# Altium schematic symbol library T8_devkit_PCB_1.SCHLIB: 83 symbols (part 2 of 2)
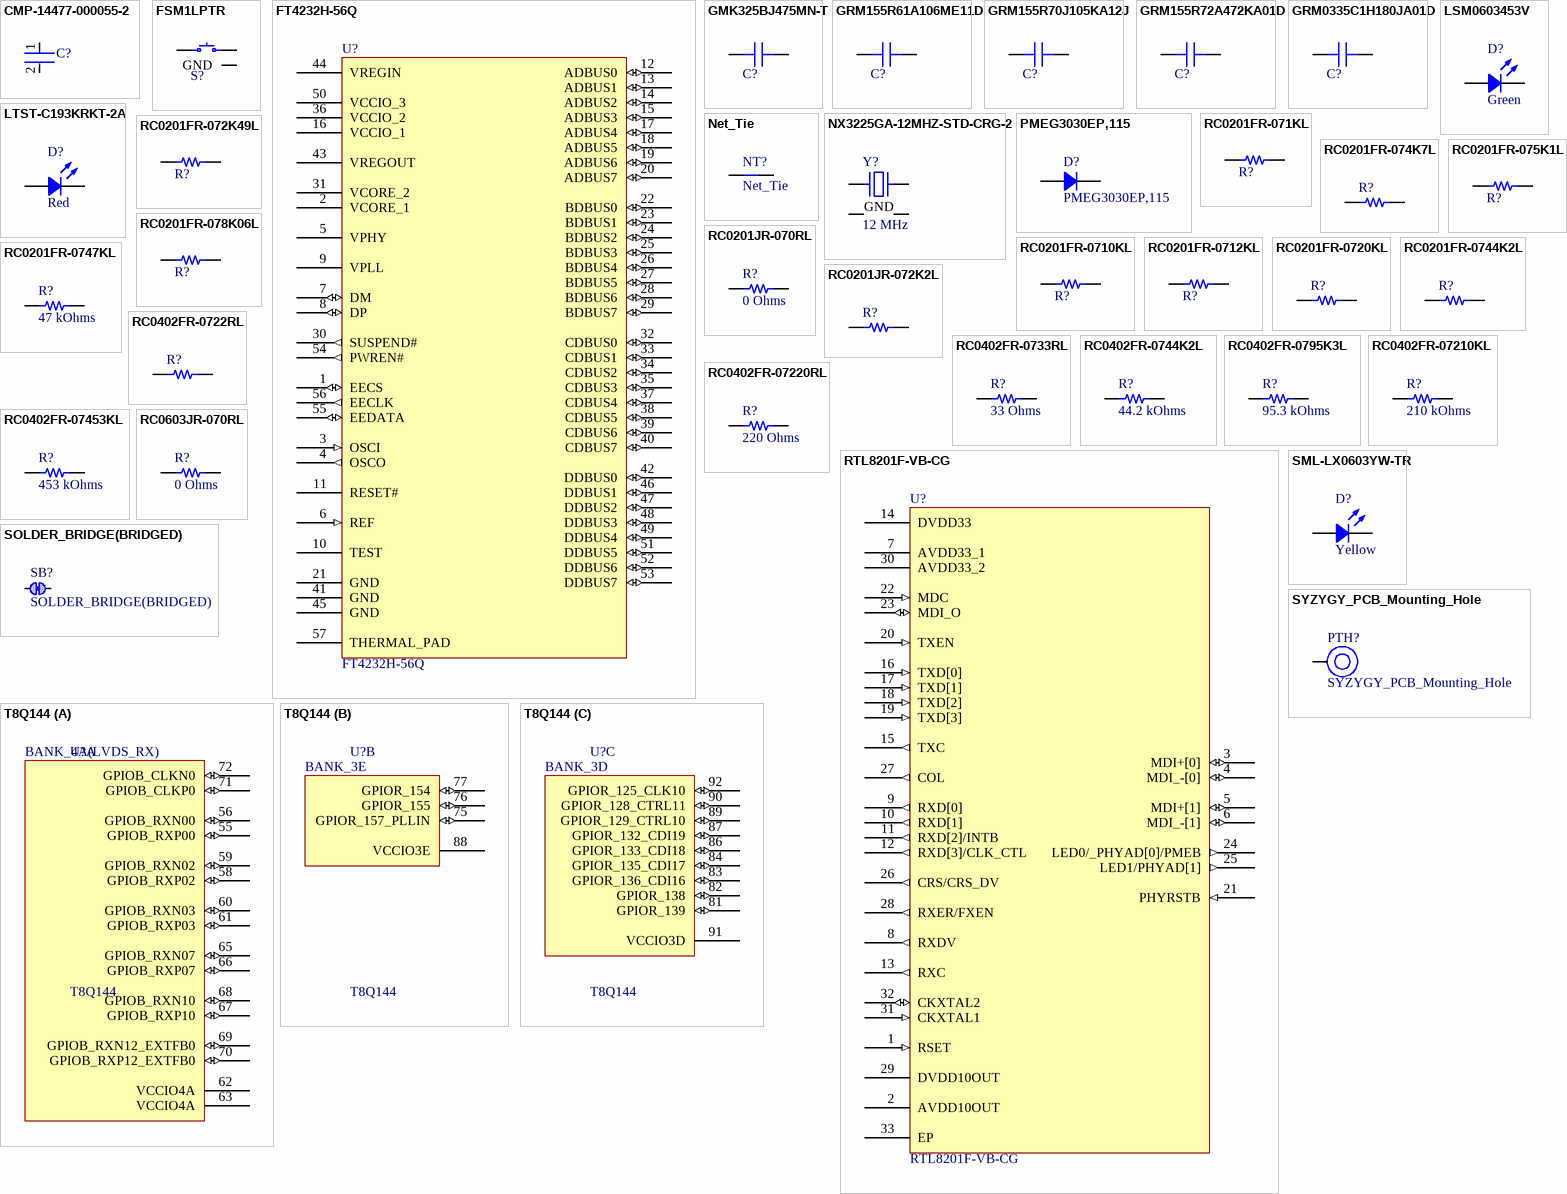
[diagram p3: symbols CMP-14477-000055-2 to T8Q144]

## RC0201FR-071KL
designator R?, comment 1 kOhms  (value not drawn)
RES 1K OHM 1% 1/20W 0201; Part Number: RC0201FR-071KL; Manufacturer: Yageo; Power (Watts): 0.05W, 1/20W; Temperature Coefficient: ±200ppm/°C; Value: 1 kOhms; ComponentLink1Description: Datasheet; ComponentLink1URL: https://www.yageo.com/upload/media/product/productsearch/datasheet/rchip/PYu-RC_Group_51_RoHS_L_10.pdf; ComponentLink2Description: DigiKey Link; ComponentLink2URL: https://www.digikey.com/en/products/detail/yageo/RC0201FR-071KL/3202389; Composition: Thick Film; Device Package: 0201 (0603 Metric); Features: Moisture Resistant; Height - Seated (Max): 0.010" (0.26mm); LastUpdated: 19/09/2022 13:09:03; Lifecycle Status: Active; Minimum Order: 1; Number of Terminations: 2; Operating Temperature: -55°C ~ 125°C; Package / Case: 0201 (0603 Metric); Packaging: CutTape; PartId: 2286; Part Status: Active; Price: 0.01; Resistance: 1 kOhms; Series: RC_L; Size / Dimension: 0.024" L x 0.012" W (0.60mm x 0.30mm); Supplier 1: DigiKey; Supplier Part Number 1: 311-1KMCT-ND; Supplier Device Package: 0201; Tolerance: ±1%
footprint RES 0201_0603
pins: 1, 2

## RC0201FR-072K49L
designator R?, comment 2.49 kOhms  (value not drawn)
RES 2.49K OHM 1% 1/20W 0201; Part Number: RC0201FR-072K49L; Manufacturer: Yageo; Power (Watts): 0.05W, 1/20W; Temperature Coefficient: ±200ppm/°C; Value: 2.49 kOhms; ComponentLink1Description: Datasheet; ComponentLink1URL: https://www.yageo.com/upload/media/product/productsearch/datasheet/rchip/PYu-RC_Group_51_RoHS_L_10.pdf; ComponentLink2Description: DigiKey Link; ComponentLink2URL: https://www.digikey.com/en/products/detail/yageo/RC0201FR-072K49L/3202399; Composition: Thick Film; Device Package: 0201 (0603 Metric); Features: Moisture Resistant; Height - Seated (Max): 0.010" (0.26mm); LastUpdated: 19/09/2022 13:09:06; Lifecycle Status: Active; Minimum Order: 1; Number of Terminations: 2; Operating Temperature: -55°C ~ 125°C; Package / Case: 0201 (0603 Metric); Packaging: CutTape; PartId: 1844; Part Status: Active; Price: 0.01; Resistance: 2.49 kOhms; Series: RC_L; Size / Dimension: 0.024" L x 0.012" W (0.60mm x 0.30mm); Supplier 1: DigiKey; Supplier Part Number 1: YAG2338CT-ND; Supplier Device Package: 0201; Tolerance: ±1%
footprint RES 0201_0603
pins: 1, 2

## RC0201FR-074K7L
designator R?, comment 4.7 kOhms  (value not drawn)
RES 4.7K OHM 1% 1/20W 0201; Part Number: RC0201FR-074K7L; Manufacturer: Yageo; Power (Watts): 0.05W, 1/20W; Temperature Coefficient: ±200ppm/°C; Value: 4.7 kOhms; ComponentLink1Description: Datasheet; ComponentLink1URL: https://www.yageo.com/upload/media/product/productsearch/datasheet/rchip/PYu-RC_Group_51_RoHS_L_10.pdf; ComponentLink2Description: DigiKey Link; ComponentLink2URL: https://www.digikey.com/en/products/detail/yageo/RC0201FR-074K7L/1948894; Composition: Thick Film; Device Package: 0201 (0603 Metric); Features: Moisture Resistant; Height - Seated (Max): 0.010" (0.26mm); LastUpdated: 19/09/2022 13:09:03; Lifecycle Status: Active; Minimum Order: 1; Number of Terminations: 2; Operating Temperature: -55°C ~ 125°C; Package / Case: 0201 (0603 Metric); Packaging: CutTape; PartId: 2288; Part Status: Active; Price: 0.01; Resistance: 4.7 kOhms; Series: RC_L; Size / Dimension: 0.024" L x 0.012" W (0.60mm x 0.30mm); Supplier 1: DigiKey; Supplier Part Number 1: 311-4.70KMCT-ND; Supplier Device Package: 0201; Tolerance: ±1%
footprint RES 0201_0603
pins: 1, 2

## RC0201FR-075K1L
designator R?, comment 5.1 kOhms  (value not drawn)
RES 5.1K OHM 1% 1/20W 0201; Part Number: RC0201FR-075K1L; Manufacturer: Yageo; Power (Watts): 0.05W, 1/20W; Temperature Coefficient: ±200ppm/°C; Value: 5.1 kOhms; ComponentLink1Description: Datasheet; ComponentLink1URL: https://www.yageo.com/upload/media/product/productsearch/datasheet/rchip/PYu-RC_Group_51_RoHS_L_10.pdf; ComponentLink2Description: DigiKey Link; ComponentLink2URL: https://www.digikey.com/en/products/detail/yageo/RC0201FR-075K1L/5280601; Composition: Thick Film; Device Package: 0201 (0603 Metric); Features: Moisture Resistant; Height - Seated (Max): 0.010" (0.26mm); LastUpdated: 19/09/2022 13:09:10; Lifecycle Status: Active; Minimum Order: 1; Number of Terminations: 2; Operating Temperature: -55°C ~ 125°C; Package / Case: 0201 (0603 Metric); Packaging: CutTape; PartId: 1398; Part Status: Active; Price: 0.01; Resistance: 5.1 kOhms; Series: RC_L; Size / Dimension: 0.024" L x 0.012" W (0.60mm x 0.30mm); Supplier 1: DigiKey; Supplier Part Number 1: YAG2741CT-ND; Supplier Device Package: 0201; Tolerance: ±1%
footprint RES 0201_0603
pins: 1, 2

## RC0201FR-078K06L
designator R?, comment 8.06 kOhms  (value not drawn)
RES 8.06K OHM 1% 1/20W 0201; Part Number: RC0201FR-078K06L; Manufacturer: Yageo; Power (Watts): 0.05W, 1/20W; Temperature Coefficient: ±200ppm/°C; Value: 8.06 kOhms; ComponentLink1Description: Datasheet; ComponentLink1URL: https://www.yageo.com/upload/media/product/productsearch/datasheet/rchip/PYu-RC_Group_51_RoHS_L_10.pdf; ComponentLink2Description: DigiKey Link; ComponentLink2URL: https://www.digikey.com/en/products/detail/yageo/RC0201FR-078K06L/5280691; Composition: Thick Film; Device Package: 0201 (0603 Metric); Features: Moisture Resistant; Height - Seated (Max): 0.010" (0.26mm); LastUpdated: 19/09/2022 13:09:10; Lifecycle Status: Active; Minimum Order: 1; Number of Terminations: 2; Operating Temperature: -55°C ~ 125°C; Package / Case: 0201 (0603 Metric); Packaging: CutTape; PartId: 1391; Part Status: Active; Price: 0.01; Resistance: 8.06 kOhms; Series: RC_L; Size / Dimension: 0.024" L x 0.012" W (0.60mm x 0.30mm); Supplier 1: DigiKey; Supplier Part Number 1: YAG2831CT-ND; Supplier Device Package: 0201; Tolerance: ±1%
footprint RES 0201_0603
pins: 1, 2

## RC0201FR-0710KL
designator R?, comment 10 kOhms  (value not drawn)
RES 10K OHM 1% 1/20W 0201; Part Number: RC0201FR-0710KL; Manufacturer: Yageo; Power (Watts): 0.05W, 1/20W; Temperature Coefficient: ±200ppm/°C; Value: 10 kOhms; ComponentLink1Description: Datasheet; ComponentLink1URL: https://www.yageo.com/upload/media/product/productsearch/datasheet/rchip/PYu-RC_Group_51_RoHS_L_10.pdf; ComponentLink2Description: DigiKey Link; ComponentLink2URL: https://www.digikey.com/en/products/detail/yageo/RC0201FR-0710KL/1948870; Composition: Thick Film; Device Package: 0201 (0603 Metric); Features: Moisture Resistant; Height - Seated (Max): 0.010" (0.26mm); LastUpdated: 19/09/2022 13:09:03; Lifecycle Status: Active; Minimum Order: 1; Number of Terminations: 2; Operating Temperature: -55°C ~ 125°C; Package / Case: 0201 (0603 Metric); Packaging: CutTape; PartId: 2281; Part Status: Active; Price: 0.01; Resistance: 10 kOhms; Series: RC_L; Size / Dimension: 0.024" L x 0.012" W (0.60mm x 0.30mm); Supplier 1: DigiKey; Supplier Part Number 1: 311-10.0KMCT-ND; Supplier Device Package: 0201; Tolerance: ±1%
footprint RES 0201_0603
pins: 1, 2

## RC0201FR-0712KL
designator R?, comment 12 kOhms  (value not drawn)
RES 12K OHM 1% 1/20W 0201; Part Number: RC0201FR-0712KL; Manufacturer: Yageo; Power (Watts): 0.05W, 1/20W; Temperature Coefficient: ±200ppm/°C; Value: 12 kOhms; ComponentLink1Description: Datasheet; ComponentLink1URL: https://www.yageo.com/upload/media/product/productsearch/datasheet/rchip/PYu-RC_Group_51_RoHS_L_10.pdf; ComponentLink2Description: DigiKey Link; ComponentLink2URL: https://www.digikey.com/en/products/detail/yageo/RC0201FR-0712KL/1948886; Composition: Thick Film; Device Package: 0201 (0603 Metric); Features: Moisture Resistant; Height - Seated (Max): 0.010" (0.26mm); LastUpdated: 19/09/2022 13:09:10; Lifecycle Status: Active; Minimum Order: 1; Number of Terminations: 2; Operating Temperature: -55°C ~ 125°C; Package / Case: 0201 (0603 Metric); Packaging: CutTape; PartId: 1388; Part Status: Active; Price: 0.01; Resistance: 12 kOhms; Series: RC_L; Size / Dimension: 0.024" L x 0.012" W (0.60mm x 0.30mm); Supplier 1: DigiKey; Supplier Part Number 1: 311-12.0KMCT-ND; Supplier Device Package: 0201; Tolerance: ±1%
footprint RES 0201_0603
pins: 1, 2

## RC0201FR-0720KL
designator R?, comment 20 kOhms  (value not drawn)
RES 20K OHM 1% 1/20W 0201; Part Number: RC0201FR-0720KL; Manufacturer: Yageo; Power (Watts): 0.05W, 1/20W; Temperature Coefficient: ±200ppm/°C; Value: 20 kOhms; ComponentLink1Description: Datasheet; ComponentLink1URL: https://www.yageo.com/upload/media/product/productsearch/datasheet/rchip/PYu-RC_Group_51_RoHS_L_10.pdf; ComponentLink2Description: DigiKey Link; ComponentLink2URL: https://www.digikey.com/en/products/detail/yageo/RC0201FR-0720KL/3202392; Composition: Thick Film; Device Package: 0201 (0603 Metric); Features: Moisture Resistant; Height - Seated (Max): 0.010" (0.26mm); LastUpdated: 19/09/2022 13:09:10; Lifecycle Status: Active; Minimum Order: 1; Number of Terminations: 2; Operating Temperature: -55°C ~ 125°C; Package / Case: 0201 (0603 Metric); Packaging: CutTape; PartId: 1365; Part Status: Active; Price: 0.01; Resistance: 20 kOhms; Series: RC_L; Size / Dimension: 0.024" L x 0.012" W (0.60mm x 0.30mm); Supplier 1: DigiKey; Supplier Part Number 1: YAG2276CT-ND; Supplier Device Package: 0201; Tolerance: ±1%
footprint RES 0201_0603
pins: 1, 2

## RC0201FR-0744K2L
designator R?, comment 44.2 kOhms  (value not drawn)
RES 44.2K OHM 1% 1/20W 0201; Part Number: RC0201FR-0744K2L; Manufacturer: Yageo; Power (Watts): 0.05W, 1/20W; Temperature Coefficient: ±200ppm/°C; Value: 44.2 kOhms; ComponentLink1Description: Datasheet; ComponentLink1URL: https://www.yageo.com/upload/media/product/productsearch/datasheet/rchip/PYu-RC_Group_51_RoHS_L_10.pdf; ComponentLink2Description: DigiKey Link; ComponentLink2URL: https://www.digikey.com/en/products/detail/yageo/RC0201FR-0744K2L/5280538; Composition: Thick Film; Device Package: 0201 (0603 Metric); Features: Moisture Resistant; Height - Seated (Max): 0.010" (0.26mm); LastUpdated: 19/09/2022 13:08:58; Lifecycle Status: Active; Minimum Order: 1; Number of Terminations: 2; Operating Temperature: -55°C ~ 125°C; Package / Case: 0201 (0603 Metric); Packaging: CutTape; PartId: 3437; Part Status: Active; Price: 0.01; Resistance: 44.2 kOhms; Series: RC_L; Size / Dimension: 0.024" L x 0.012" W (0.60mm x 0.30mm); Supplier 1: DigiKey; Supplier Part Number 1: YAG2678CT-ND; Supplier Device Package: 0201; Tolerance: ±1%
footprint RES 0201_0603
pins: 1, 2

## RC0201FR-0747KL
designator R?, comment 47 kOhms
RES 47K OHM 1% 1/20W 0201; Part Number: RC0201FR-0747KL; Manufacturer: Yageo; Power (Watts): 0.05W, 1/20W; Temperature Coefficient: ±200ppm/°C; Value: 47 kOhms; ComponentLink1Description: Datasheet; ComponentLink1URL: https://www.yageo.com/upload/media/product/productsearch/datasheet/rchip/PYu-RC_Group_51_RoHS_L_10.pdf; ComponentLink2Description: DigiKey Link; ComponentLink2URL: https://www.digikey.com/en/products/detail/yageo/RC0201FR-0747KL/3202409; Composition: Thick Film; Device Package: 0201 (0603 Metric); Features: Moisture Resistant; Height - Seated (Max): 0.010" (0.26mm); LastUpdated: 19/09/2022 13:09:03; Lifecycle Status: Active; Minimum Order: 1; Number of Terminations: 2; Operating Temperature: -55°C ~ 125°C; Package / Case: 0201 (0603 Metric); Packaging: CutTape; PartId: 2291; Part Status: Active; Price: 0.01; Resistance: 47 kOhms; Series: RC_L; Size / Dimension: 0.024" L x 0.012" W (0.60mm x 0.30mm); Supplier 1: DigiKey; Supplier Part Number 1: 311-47KMCT-ND; Supplier Device Package: 0201; Tolerance: ±1%
footprint RES 0201_0603
pins: 1, 2

## RC0201JR-070RL
designator R?, comment 0 Ohms
RES 0 OHM JUMPER 1/20W 0201; Part Number: RC0201JR-070RL; Manufacturer: Yageo; Power (Watts): 0.05W, 1/20W; Value: 0 Ohms; ComponentLink1Description: Datasheet; ComponentLink1URL: https://www.yageo.com/upload/media/product/productsearch/datasheet/rchip/PYu-RC_Group_51_RoHS_L_10.pdf; ComponentLink2Description: DigiKey Link; ComponentLink2URL: https://www.digikey.com/en/products/detail/yageo/RC0201JR-070RL/1948898; Composition: Thick Film; Device Package: 0201 (0603 Metric); Features: Moisture Resistant; Height - Seated (Max): 0.010" (0.26mm); LastUpdated: 19/09/2022 13:09:03; Lifecycle Status: Active; Minimum Order: 1; Number of Terminations: 2; Operating Temperature: -55°C ~ 125°C; Package / Case: 0201 (0603 Metric); Packaging: CutTape; PartId: 2293; Part Status: Active; Price: 0.01; Resistance: 0 Ohms; Series: RC_L; Size / Dimension: 0.024" L x 0.012" W (0.60mm x 0.30mm); Supplier 1: DigiKey; Supplier Part Number 1: 311-0.0NCT-ND; Supplier Device Package: 0201; Tolerance: Jumper
footprint RES 0201_0603
pins: 1, 2

## RC0201JR-072K2L
designator R?, comment 2.2 kOhms  (value not drawn)
RES 2.2K OHM 5% 1/20W 0201; Part Number: RC0201JR-072K2L; Manufacturer: Yageo; Power (Watts): 0.05W, 1/20W; Temperature Coefficient: ±200ppm/°C; Value: 2.2 kOhms; ComponentLink1Description: Datasheet; ComponentLink1URL: https://www.yageo.com/upload/media/product/productsearch/datasheet/rchip/PYu-RC_Group_51_RoHS_L_10.pdf; ComponentLink2Description: DigiKey Link; ComponentLink2URL: https://www.digikey.com/en/products/detail/yageo/RC0201JR-072K2L/1948938; Composition: Thick Film; Device Package: 0201 (0603 Metric); Features: Moisture Resistant; Height - Seated (Max): 0.010" (0.26mm); LastUpdated: 19/09/2022 13:08:59; Lifecycle Status: Active; Minimum Order: 1; Number of Terminations: 2; Operating Temperature: -55°C ~ 125°C; Package / Case: 0201 (0603 Metric); Packaging: CutTape; PartId: 3184; Part Status: Active; Price: 0.01; Resistance: 2.2 kOhms; Series: RC_L; Size / Dimension: 0.024" L x 0.012" W (0.60mm x 0.30mm); Supplier 1: DigiKey; Supplier Part Number 1: 311-2.2KNCT-ND; Supplier Device Package: 0201; Tolerance: ±5%
footprint RES 0201_0603
pins: 1, 2

## RC0402FR-0722RL
designator R?, comment 22 Ohms  (value not drawn)
RES 22 OHM 1% 1/16W 0402; Part Number: RC0402FR-0722RL; Manufacturer: Yageo; Power (Watts): 0.063W, 1/16W; Temperature Coefficient: ±100ppm/°C; Value: 22 Ohms; ComponentLink1Description: Datasheet; ComponentLink1URL: https://www.yageo.com/upload/media/product/productsearch/datasheet/rchip/PYu-RC_Group_51_RoHS_L_10.pdf; ComponentLink2Description: DigiKey Link; ComponentLink2URL: https://www.digikey.com/en/products/detail/yageo/RC0402FR-0722RL/726562; Composition: Thick Film; Device Package: 0402 (1005 Metric); Features: Moisture Resistant; Height - Seated (Max): 0.016" (0.40mm); LastUpdated: 19/09/2022 13:14:15; Lifecycle Status: Active; Minimum Order: 1; Number of Terminations: 2; Operating Temperature: -55°C ~ 155°C; Package / Case: 0402 (1005 Metric); Packaging: CutTape; PartId: 17600; Part Status: Active; Price: 0.01; Resistance: 22 Ohms; Series: RC_L; Size / Dimension: 0.039" L x 0.020" W (1.00mm x 0.50mm); Supplier 1: DigiKey; Supplier Part Number 1: 311-22.0LRCT-ND; Supplier Device Package: 0402; Tolerance: ±1%
footprint RES 0402_1005
pins: 1, 2

## RC0402FR-0733RL
designator R?, comment 33 Ohms
RES 33 OHM 1% 1/16W 0402; Part Number: RC0402FR-0733RL; Manufacturer: Yageo; Power (Watts): 0.063W, 1/16W; Temperature Coefficient: ±100ppm/°C; Value: 33 Ohms; ComponentLink1Description: Datasheet; ComponentLink1URL: https://www.yageo.com/upload/media/product/productsearch/datasheet/rchip/PYu-RC_Group_51_RoHS_L_10.pdf; ComponentLink2Description: DigiKey Link; ComponentLink2URL: https://www.digikey.com/en/products/detail/yageo/RC0402FR-0733RL/726593; Composition: Thick Film; Device Package: 0402 (1005 Metric); Features: Moisture Resistant; Height - Seated (Max): 0.016" (0.40mm); LastUpdated: 19/09/2022 13:14:04; Lifecycle Status: Active; Minimum Order: 1; Number of Terminations: 2; Operating Temperature: -55°C ~ 155°C; Package / Case: 0402 (1005 Metric); Packaging: CutTape; PartId: 20555; Part Status: Active; Price: 0.01; Resistance: 33 Ohms; Series: RC_L; Size / Dimension: 0.039" L x 0.020" W (1.00mm x 0.50mm); Supplier 1: DigiKey; Supplier Part Number 1: 311-33.0LRCT-ND; Supplier Device Package: 0402; Tolerance: ±1%
footprint RES 0402_1005
pins: 1, 2

## RC0402FR-0744K2L
designator R?, comment 44.2 kOhms
RES 44.2K OHM 1% 1/16W 0402; Part Number: RC0402FR-0744K2L; Manufacturer: Yageo; Power (Watts): 0.063W, 1/16W; Temperature Coefficient: ±100ppm/°C; Value: 44.2 kOhms; ComponentLink1Description: Datasheet; ComponentLink1URL: https://www.yageo.com/upload/media/product/productsearch/datasheet/rchip/PYu-RC_Group_51_RoHS_L_10.pdf; ComponentLink2Description: DigiKey Link; ComponentLink2URL: https://www.digikey.com/en/products/detail/yageo/RC0402FR-0744K2L/5281023; Composition: Thick Film; Device Package: 0402 (1005 Metric); Features: Moisture Resistant; Height - Seated (Max): 0.016" (0.40mm); LastUpdated: 19/09/2022 13:15:04; Lifecycle Status: Active; Minimum Order: 1; Number of Terminations: 2; Operating Temperature: -55°C ~ 155°C; Package / Case: 0402 (1005 Metric); Packaging: CutTape; PartId: 2628; Part Status: Active; Price: 0.01; Resistance: 44.2 kOhms; Series: RC_L; Size / Dimension: 0.039" L x 0.020" W (1.00mm x 0.50mm); Supplier 1: DigiKey; Supplier Part Number 1: YAG3163CT-ND; Supplier Device Package: 0402; Tolerance: ±1%
footprint RES 0402_1005
pins: 1, 2

## RC0402FR-0795K3L
designator R?, comment 95.3 kOhms
RES 95.3K OHM 1% 1/16W 0402; Part Number: RC0402FR-0795K3L; Manufacturer: Yageo; Power (Watts): 0.063W, 1/16W; Temperature Coefficient: ±100ppm/°C; Value: 95.3 kOhms; ComponentLink1Description: Datasheet; ComponentLink1URL: https://www.yageo.com/upload/media/product/productsearch/datasheet/rchip/PYu-RC_Group_51_RoHS_L_10.pdf; ComponentLink2Description: DigiKey Link; ComponentLink2URL: https://www.digikey.com/en/products/detail/yageo/RC0402FR-0795K3L/726673; Composition: Thick Film; Device Package: 0402 (1005 Metric); Features: Moisture Resistant; Height - Seated (Max): 0.016" (0.40mm); LastUpdated: 19/09/2022 13:14:10; Lifecycle Status: Active; Minimum Order: 1; Number of Terminations: 2; Operating Temperature: -55°C ~ 155°C; Package / Case: 0402 (1005 Metric); Packaging: CutTape; PartId: 18950; Part Status: Active; Price: 0.01; Resistance: 95.3 kOhms; Series: RC_L; Size / Dimension: 0.039" L x 0.020" W (1.00mm x 0.50mm); Supplier 1: DigiKey; Supplier Part Number 1: 311-95.3KLRCT-ND; Supplier Device Package: 0402; Tolerance: ±1%
footprint RES 0402_1005
pins: 1, 2

## RC0402FR-07210KL
designator R?, comment 210 kOhms
RES 210K OHM 1% 1/16W 0402; Part Number: RC0402FR-07210KL; Manufacturer: Yageo; Power (Watts): 0.063W, 1/16W; Temperature Coefficient: ±100ppm/°C; Value: 210 kOhms; ComponentLink1Description: Datasheet; ComponentLink1URL: https://www.yageo.com/upload/media/product/productsearch/datasheet/rchip/PYu-RC_Group_51_RoHS_L_10.pdf; ComponentLink2Description: DigiKey Link; ComponentLink2URL: https://www.digikey.com/en/products/detail/yageo/RC0402FR-07210KL/726560; Composition: Thick Film; Device Package: 0402 (1005 Metric); Features: Moisture Resistant; Height - Seated (Max): 0.016" (0.40mm); LastUpdated: 19/09/2022 13:14:10; Lifecycle Status: Active; Minimum Order: 1; Number of Terminations: 2; Operating Temperature: -55°C ~ 155°C; Package / Case: 0402 (1005 Metric); Packaging: CutTape; PartId: 19115; Part Status: Active; Price: 0.01; Resistance: 210 kOhms; Series: RC_L; Size / Dimension: 0.039" L x 0.020" W (1.00mm x 0.50mm); Supplier 1: DigiKey; Supplier Part Number 1: 311-210KLRCT-ND; Supplier Device Package: 0402; Tolerance: ±1%
footprint RES 0402_1005
pins: 1, 2

## RC0402FR-07220RL
designator R?, comment 220 Ohms
RES 220 OHM 1% 1/16W 0402; Part Number: RC0402FR-07220RL; Manufacturer: Yageo; Power (Watts): 0.063W, 1/16W; Temperature Coefficient: ±100ppm/°C; Value: 220 Ohms; ComponentLink1Description: Datasheet; ComponentLink1URL: https://www.yageo.com/upload/media/product/productsearch/datasheet/rchip/PYu-RC_Group_51_RoHS_L_10.pdf; ComponentLink2Description: DigiKey Link; ComponentLink2URL: https://www.digikey.com/en/products/detail/yageo/RC0402FR-07220RL/726565; Composition: Thick Film; Device Package: 0402 (1005 Metric); Features: Moisture Resistant; Height - Seated (Max): 0.016" (0.40mm); LastUpdated: 19/09/2022 13:14:14; Lifecycle Status: Active; Minimum Order: 1; Number of Terminations: 2; Operating Temperature: -55°C ~ 155°C; Package / Case: 0402 (1005 Metric); Packaging: CutTape; PartId: 17956; Part Status: Active; Price: 0.01; Resistance: 220 Ohms; Series: RC_L; Size / Dimension: 0.039" L x 0.020" W (1.00mm x 0.50mm); Supplier 1: DigiKey; Supplier Part Number 1: 311-220LRCT-ND; Supplier Device Package: 0402; Tolerance: ±1%
footprint RES 0402_1005
pins: 1, 2

## RC0402FR-07453KL
designator R?, comment 453 kOhms
RES 453K OHM 1% 1/16W 0402; Part Number: RC0402FR-07453KL; Manufacturer: Yageo; Power (Watts): 0.063W, 1/16W; Temperature Coefficient: ±100ppm/°C; Value: 453 kOhms; ComponentLink1Description: Datasheet; ComponentLink1URL: https://www.yageo.com/upload/media/product/productsearch/datasheet/rchip/PYu-RC_Group_51_RoHS_L_10.pdf; ComponentLink2Description: DigiKey Link; ComponentLink2URL: https://www.digikey.com/en/products/detail/yageo/RC0402FR-07453KL/5281024; Composition: Thick Film; Device Package: 0402 (1005 Metric); Features: Moisture Resistant; Height - Seated (Max): 0.016" (0.40mm); LastUpdated: 19/09/2022 13:15:03; Lifecycle Status: Active; Minimum Order: 1; Number of Terminations: 2; Operating Temperature: -55°C ~ 155°C; Package / Case: 0402 (1005 Metric); Packaging: CutTape; PartId: 2667; Part Status: Active; Price: 0.01; Resistance: 453 kOhms; Series: RC_L; Size / Dimension: 0.039" L x 0.020" W (1.00mm x 0.50mm); Supplier 1: DigiKey; Supplier Part Number 1: YAG3164CT-ND; Supplier Device Package: 0402; Tolerance: ±1%
footprint RES 0402_1005
pins: 1, 2

## RC0603JR-070RL
designator R?, comment 0 Ohms
RES 0 OHM JUMPER 1/10W 0603; Part Number: RC0603JR-070RL; Manufacturer: Yageo; Power (Watts): 0.1W, 1/10W; Value: 0 Ohms; ComponentLink1Description: Datasheet; ComponentLink1URL: https://www.yageo.com/upload/media/product/productsearch/datasheet/rchip/PYu-RC_Group_51_RoHS_L_10.pdf; ComponentLink2Description: DigiKey Link; ComponentLink2URL: https://www.digikey.com/en/products/detail/yageo/RC0603JR-070RL/726675; Composition: Thick Film; Device Package: 0603 (1608 Metric); Features: Moisture Resistant; Height - Seated (Max): 0.022" (0.55mm); LastUpdated: 19/09/2022 13:21:26; Lifecycle Status: Active; Minimum Order: 1; Number of Terminations: 2; Operating Temperature: -55°C ~ 155°C; Package / Case: 0603 (1608 Metric); Packaging: CutTape; PartId: 22595; Part Status: Active; Price: 0.01; Resistance: 0 Ohms; Series: RC_L; Size / Dimension: 0.063" L x 0.031" W (1.60mm x 0.80mm); Supplier 1: DigiKey; Supplier Part Number 1: 311-0.0GRCT-ND; Supplier Device Package: 0603; Tolerance: Jumper
footprint RES 0603_1608
pins: 1, 2

## RTL8201F-VB-CG
designator U?
Physical Layer Transceivers 2.97V ~ 3.63V IEEE 802.3, 10/100 Base-T/TX/FX PHY MII, SNI, SMI QFN-32_5x5x05P Ethernet ICs ROHS; Manufacturer: Realtek Semicon; ComponentLink1Description: LCSC Link; ComponentLink1URL: https://www.lcsc.com/product-detail/Ethernet-ICs_Realtek-Semicon-RTL8201F-VB-CG_C45044.html; ComponentLink2Description: Datasheet; ComponentLink2URL: https://datasheetspdf.com/pdf-file/845737/Realtek/RTL8201F-VB-CG/1; Manufacturer Part Number: RTL8201F-VB-CG; Category: Communication Interface Chip/UART/485/232/Ethernet ICs; Type: Physical Layer Transceivers; Supply Voltage: 2.97V ~ 3.63V; Standards: IEEE 802.3, 10/100 Base-T/TX/FX PHY; Interface: MII, SNI, SMI; Package: QFN-32_5x5x05P; Supplier 1: Bison Technologies; Supplier Part Number 1: RTL8201F-VB-CG-220741-REALTEK; Supplier 2: Future Electronics; Supplier Part Number 2: 4019222
footprint QFN50P500X500X100_HS-33N (QFN, 32-Leads, Body 5.00x5.00mm, Pitch 0.50mm, Thermal Pad 3.35x3.35mm, IPC Medium Density)
pins: 1 RSET (in), 2 AVDD10OUT (power), 3 MDI+[0] (io), 4 MDI_-[0] (io), 5 MDI+[1] (io), 6 MDI_-[1] (io), 7 AVDD33_1 (power), 8 RXDV (out), 9 RXD[0] (out), 10 RXD[1] (out), 11 RXD[2]/INTB (out), 12 RXD[3]/CLK_CTL (out), 13 RXC (out), 14 DVDD33 (power), 15 TXC (out), 16 TXD[0] (in), 17 TXD[1] (in), 18 TXD[2] (in), 19 TXD[3] (in), 20 TXEN (in), 21 PHYRSTB (in), 22 MDC (in), 23 MDI_O (io), 24 LED0/_PHYAD[0]/PMEB (out), 25 LED1/PHYAD[1] (out), 26 CRS/CRS_DV (out), 27 COL (out), 28 RXER/FXEN (out), 29 DVDD10OUT (power), 30 AVDD33_2 (power), 31 CKXTAL1 (in), 32 CKXTAL2 (io), 33 EP (power)

## SML-LX0603YW-TR
designator D?, comment Yellow
LED YELLOW DIFFUSED SMD; Part Number: SML-LX0603YW-TR; Manufacturer: Lumex Opto/Components Inc.; Configuration: Standard; Current - Test: 20mA; Lens Color: White; Lens Size: 1.00mm x 0.80mm; Lens Style: Rectangle with Flat Top; Millicandela Rating: 14mcd; Viewing Angle: 160°; Voltage - Forward (Vf) (Typ): 2.1V; Wavelength - Peak: 585nm; Color: Yellow; ComponentLink1Description: Datasheet; ComponentLink1URL: https://www.lumex.com/content/files/ProductAttachment/SML-LX0603YW-TR.pdf; ComponentLink2Description: DigiKey Link; ComponentLink2URL: https://www.digikey.com/en/products/detail/lumex-opto-components-inc/SML-LX0603YW-TR/304361; Device Package: 0603 (1608 Metric); Height (Max): 0.60mm; LastUpdated: 19/09/2022 13:51:05; Lens Transparency: Diffused; Lifecycle Status: Active; Minimum Order: 1; Mounting Type: Surface Mount; Package / Case: 0603 (1608 Metric); Packaging: TapeAndReel; PartId: 92; Part Status: Active; Price: 0.05; Series: -; Size / Dimension: 1.60mm L x 0.80mm W; Supplier 1: DigiKey; Supplier Part Number 1: 67-1550-1-ND; Value: Yellow
footprint LED 0603_1608 YELLOW
pins: 1, 2

## SOLDER_BRIDGE(BRIDGED)
designator SB?
footprint SOLDER_BRIDGE(BRIDGED)
pins: 1, 2

## SYZYGY_PCB_Mounting_Hole
designator PTH?  (no BOM)
footprint SYZYGY_PCB_Mounting_Hole
pins: 1

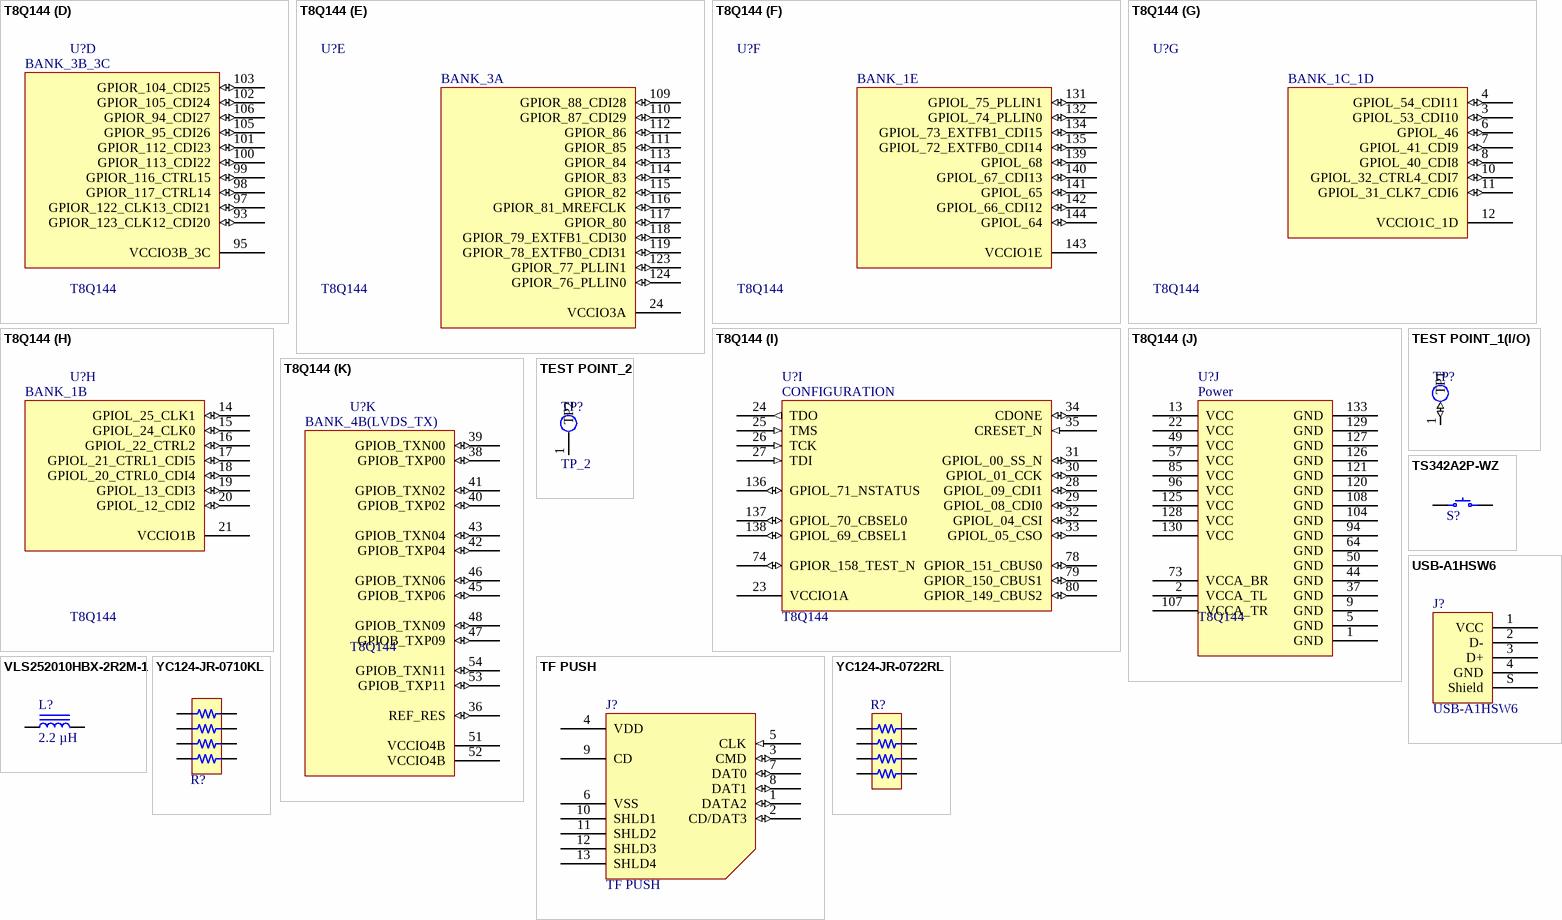
[diagram p2: symbols T8Q144 to YC124-JR-0722RL]

## T8Q144
designator U?
Trion® Field Programmable Gate Array (FPGA) IC 97 125952 7384 144-LQFP; Manufacturer: Efinix, Inc.; Manufacturer Product Number: T8Q144I4; Number of Logic Elements/Cells: 7384; Total RAM Bits: 125952; Number of I/O: 97; Voltage - Supply: 1.15V ~ 1.25V; ComponentLink1Description: Datasheet; ComponentLink1URL: https://www.efinixinc.com/docs/trion8-ds-v4.0.pdf; ComponentLink2Description: Digi-Key Link; ComponentLink2URL: https://www.digikey.com/en/products/detail/efinix-inc/T8Q144I4/11591372; Mounting Type: Surface Mount; Operating Temperature: -40°C ~ 100°C (TJ); Package / Case: 144-LQFP; Supplier 1: Digi-Key; Supplier Part Number 1: 2134-T8Q144I4-ND; Supplier 2: Digi-Key; Supplier Part Number 2: 2134-T8Q144C3-ND; Supplier 3: Digi-Key; Supplier Part Number 3: 2134-T8Q144C4-ND; Supplier Device Package: 144-LQFP (20x20); Base Product Number: T8Q144
footprint CQFP50P2200X2200X160-144N (CQFP, 144-Leads, Body 22.00x22.00mm, Pitch 0.50mm, IPC Medium Density)
ibis T8 (Trion T8 IBIS model)
signal-integrity model T8_SI (Trion T8 Signal Integrity model)
part A pins: 55 GPIOB_RXP00 (io), 56 GPIOB_RXN00 (io), 58 GPIOB_RXP02 (io), 59 GPIOB_RXN02 (io), 60 GPIOB_RXN03 (io), 61 GPIOB_RXP03 (io), 62 VCCIO4A (power), 63 VCCIO4A (power), 65 GPIOB_RXN07 (io), 66 GPIOB_RXP07 (io), 67 GPIOB_RXP10 (io), 68 GPIOB_RXN10 (io), 69 GPIOB_RXN12_EXTFB0 (io), 70 GPIOB_RXP12_EXTFB0 (io), 71 GPIOB_CLKP0 (io), 72 GPIOB_CLKN0 (io)
part B pins: 75 GPIOR_157_PLLIN (io), 76 GPIOR_155 (io), 77 GPIOR_154 (io), 88 VCCIO3E
part C pins: 81 GPIOR_139 (io), 82 GPIOR_138 (io), 83 GPIOR_136_CDI16 (io), 84 GPIOR_135_CDI17 (io), 86 GPIOR_133_CDI18 (io), 87 GPIOR_132_CDI19 (io), 89 GPIOR_129_CTRL10 (io), 90 GPIOR_128_CTRL11 (io), 91 VCCIO3D (power), 92 GPIOR_125_CLK10 (io)
part D pins: 93 GPIOR_123_CLK12_CDI20 (io), 95 VCCIO3B_3C, 97 GPIOR_122_CLK13_CDI21 (io), 98 GPIOR_117_CTRL14 (io), 99 GPIOR_116_CTRL15 (io), 100 GPIOR_113_CDI22 (io), 101 GPIOR_112_CDI23 (io), 102 GPIOR_105_CDI24 (io), 103 GPIOR_104_CDI25 (io), 105 GPIOR_95_CDI26 (io), 106 GPIOR_94_CDI27 (io)
part E pins: 24 VCCIO3A (power), 109 GPIOR_88_CDI28 (io), 110 GPIOR_87_CDI29 (io), 111 GPIOR_85 (io), 112 GPIOR_86 (io), 113 GPIOR_84 (io), 114 GPIOR_83 (io), 115 GPIOR_82 (io), 116 GPIOR_81_MREFCLK (io), 117 GPIOR_80 (io), 118 GPIOR_79_EXTFB1_CDI30 (io), 119 GPIOR_78_EXTFB0_CDI31 (io), 123 GPIOR_77_PLLIN1 (io), 124 GPIOR_76_PLLIN0 (io)
part F pins: 131 GPIOL_75_PLLIN1 (io), 132 GPIOL_74_PLLIN0 (io), 134 GPIOL_73_EXTFB1_CDI15 (io), 135 GPIOL_72_EXTFB0_CDI14 (io), 139 GPIOL_68 (io), 140 GPIOL_67_CDI13 (io), 141 GPIOL_65 (io), 142 GPIOL_66_CDI12 (io), 143 VCCIO1E (power), 144 GPIOL_64 (io)
part G pins: 3 GPIOL_53_CDI10 (io), 4 GPIOL_54_CDI11 (io), 6 GPIOL_46 (io), 7 GPIOL_41_CDI9 (io), 8 GPIOL_40_CDI8 (io), 10 GPIOL_32_CTRL4_CDI7 (io), 11 GPIOL_31_CLK7_CDI6 (io), 12 VCCIO1C_1D (power)
part H pins: 14 GPIOL_25_CLK1 (io), 15 GPIOL_24_CLK0 (io), 16 GPIOL_22_CTRL2 (io), 17 GPIOL_21_CTRL1_CDI5 (io), 18 GPIOL_20_CTRL0_CDI4 (io), 19 GPIOL_13_CDI3 (io), 20 GPIOL_12_CDI2 (io), 21 VCCIO1B (power)
part I pins: 23 VCCIO1A (power), 24 TDO (out), 25 TMS (in), 26 TCK (in), 27 TDI (in), 28 GPIOL_09_CDI1 (io), 29 GPIOL_08_CDI0 (io), 30 GPIOL_01_CCK (io), 31 GPIOL_00_SS_N (io), 32 GPIOL_04_CSI (io), 33 GPIOL_05_CSO (io), 34 CDONE (io), 35 CRESET_N (in), 74 GPIOR_158_TEST_N (io), 78 GPIOR_151_CBUS0 (io), 79 GPIOR_150_CBUS1 (io), 80 GPIOR_149_CBUS2 (io), 136 GPIOL_71_NSTATUS (io), 137 GPIOL_70_CBSEL0 (io), 138 GPIOL_69_CBSEL1 (io)
part J pins: 1 GND (power), 2 VCCA_TL, 5 GND (power), 9 GND (power), 13 VCC (power), 22 VCC (power), 37 GND (power), 44 GND (power), 49 VCC (power), 50 GND (power), 57 VCC (power), 64 GND (power), 73 VCCA_BR, 85 VCC (power), 94 GND (power), 96 VCC (power), 104 GND (power), 107 VCCA_TR, 108 GND (power), 120 GND (power), 121 GND (power), 125 VCC (power), 126 GND (power), 127 GND (power), 128 VCC (power), 129 GND (power), 130 VCC (power), 133 GND (power)
part K pins: 36 REF_RES (io), 38 GPIOB_TXP00 (io), 39 GPIOB_TXN00 (io), 40 GPIOB_TXP02 (io), 41 GPIOB_TXN02 (io), 42 GPIOB_TXP04 (io), 43 GPIOB_TXN04 (io), 45 GPIOB_TXP06 (io), 46 GPIOB_TXN06 (io), 47 GPIOB_TXP09 (io), 48 GPIOB_TXN09 (io), 51 VCCIO4B (power), 52 VCCIO4B (power), 53 GPIOB_TXP11 (io), 54 GPIOB_TXN11 (io)
part A text: BANK_4A(LVDS_RX)
part B text: BANK_3E
part C text: BANK_3D
part D text: BANK_3B_3C
part E text: BANK_3A
part F text: BANK_1E
part G text: BANK_1C_1D
part H text: BANK_1B
part I text: CONFIGURATION
part J text: Power
part K text: BANK_4B(LVDS_TX)

## TEST POINT_1(I/O)
designator TP?, comment TP_1  (value not drawn)  (no BOM)
1.5x1.5mm Test Point(I/O)
footprint TEST POINT (1.5x1.5mm  Test Point)
pins: 1 TP1 (io)

## TEST POINT_2
designator TP?, comment TP_2  (no BOM)
1.5x1.5mm Test Point
footprint TEST POINT (1.5x1.5mm  Test Point)
pins: 1 TP2

## TF PUSH
designator J?
-20℃~+90℃ 2mm Deck MicroSD card (TF card) Self bomb SMD SD Card Connectors ROHS; Manufacturer: SHOU HAN; ComponentLink1Description: Datasheet; ComponentLink1URL: https://datasheet.lcsc.com/lcsc/1912111437_SHOU-HAN-TF-PUSH_C393941.pdf; ComponentLink2Description: LCSC Link; ComponentLink2URL: https://www.lcsc.com/product-detail/SD-Card-Connectors_SHOU-HAN-TF-PUSH_C393941.html; Manufacturer Part Number: TF PUSH; LCSC Part Number: C393941; Package: SMD; Category: Connectors/SD Card Connectors; Operating Temperature Range: -20℃~+90℃; Maximum Body Height: 2mm; Connector Type: Deck; Card Type: MicroSD card (TF card); Card Connection Mode: Self bomb
footprint TF PUSH (Body 14.75mmx14.50mm, Pitch 1.8mm)
pins: 1 DATA2 (io), 2 CD/DAT3 (io), 3 CMD (io), 4 VDD (power), 5 CLK (in), 6 VSS (power), 7 DAT0 (io), 8 DAT1 (io), 9 CD, 10 SHLD1, 11 SHLD2, 12 SHLD3, 13 SHLD4

## TS342A2P-WZ
designator S?  (value not drawn)
NO SMDSplicing 50mA 3.95mm 100MΩ 30000 12V 2.9mm -25℃~+70℃ 2mm Black Round Button Brick nogging SPST SMD Tactile Switches ROHS; Manufacturer: SHOU HAN; Mechanical Life: 30000; ComponentLink1Description: Datasheet; ComponentLink1URL: https://datasheet.lcsc.com/lcsc/2005221232_SHOU-HAN-TS342A2P-WZ_C557591.pdf; ComponentLink2Description: LCSC Link; ComponentLink2URL: https://www.lcsc.com/product-detail/Tactile-Switches_SHOU-HAN-TS342A2P-WZ_C557591.html; Manufacturer Part Number: TS342A2P-WZ; JLCPCB Part Number: C557591; Package: SMD; Contact Current: 50mA; Switch Length: 3.95mm; Insulation Resistance: 100MΩ; Voltage Rating (DC): 12V; Switch Width: 2.9mm; Actuator/Cap Color: Black; Actuator Style: Round Button; Mounting Style: Brick nogging; Circuit: SPST
footprint TS342A2P-WZ (3.95mm x 2.9mm x 2.1mm)
pins: 1, 2

## USB-A1HSW6
designator J?
CONN RCPT TYPEA 4POS R/A; Manufacturer: On Shore Technology Inc.; Connector Type: USB - A; Current Rating (Amps): 1A; Gender: Receptacle; Number of Contacts: 4; Number of Ports: 1; Shielding: Unshielded; Voltage - Rated: 30VAC; Part Number: USB-A1HSW6; ComponentLink1Description: Datasheet; ComponentLink1URL: http://www.on-shore.com/wp-content/uploads/USB-A1HSXX.pdf; ComponentLink2Description: DigiKey Link; ComponentLink2URL: http://digikey.com/product-detail/en/on-shore-technology-inc/USB-A1HSW6/ED2989-ND/2677750; Features: Board Lock; LastUpdated: 30/04/2020 11:56:44; Lifecycle Status: Active; Minimum Order: 1; Mounting Feature: Horizontal; Mounting Type: Through Hole, Right Angle; Operating Temperature: 0°C ~ 85°C; Packaging: Tray; Part Status: Active; Price: 0.48; Series: -; Supplier 1: DigiKey; Supplier Part Number 1: ED2989-ND; Termination: Solder
footprint ON SHORE TECHNOLOGY USB-A1HSW6
pins: 1 VCC, 2 D-, 3 D+, 4 GND, S Shield

## VLS252010HBX-2R2M-1
designator L?, comment 2.2 µH
FIXED IND 2.2UH 1.76A 120MOHM SM; Part Number: VLS252010HBX-2R2M-1; Manufacturer: TDK Corporation; Current - Saturation: 2.3A; DC Resistance (DCR): 120mOhm Max; Inductance Frequency - Test: 1 MHz; Material - Core: Metal; Shielding: Shielded; Tolerance: ±20%; Type: Drum Core, Wirewound; ComponentLink1Description: Datasheet; ComponentLink1URL: https://product.tdk.com/info/en/catalog/datasheets/inductor_commercial_power_vls252010hbx-1_en.pdf?ref_disty=digikey; ComponentLink2Description: DigiKey Link; ComponentLink2URL: https://www.digikey.com/en/products/detail/tdk-corporation/VLS252010HBX-2R2M-1/4918066; Current Rating (Amps): 1.76 A; Device Package: 1008 (2520 Metric); Height - Seated (Max): 0.039" (1.00mm); Inductance: 2.2 µH; LastUpdated: 19/09/2022 14:01:21; Lifecycle Status: Active; Minimum Order: 1; Mounting Type: Surface Mount; Operating Temperature: -40°C ~ 105°C; Package / Case: 1008 (2520 Metric); Packaging: TapeAndReel; PartId: 3369; Part Status: Active; Price: 0.12; Series: VLS-HBX-1; Size / Dimension: 0.098" L x 0.079" W (2.50mm x 2.00mm); Supplier 1: DigiKey; Supplier Part Number 1: 445-172399-1-ND; Supplier Device Package: 1008 (2520 Metric); Value: 2.2 µH
footprint TDK VLS252010HBX-1
pins: 1, 2

## YC124-JR-0710KL
designator R?  (value not drawn)
RES ARRAY 4 RES 10K OHM 0804; Manufacturer: Yageo; Circuit Type: Isolated; Number of Resistors: 4; Power Per Element: 62.5mW; Temperature Coefficient: ±200ppm/°C; Tolerance: ±5%; Part Number: YC124-JR-0710KL; Applications: Automotive AEC-Q200, DDRAM, SDRAM; ComponentLink1Description: Datasheet; ComponentLink1URL: https://www.yageo.com/upload/media/product/productsearch/datasheet/rchip/PYu-YC_TC_group_51_RoHS_L_9.pdf; ComponentLink2Description: DigiKey Link; ComponentLink2URL: https://www.digikey.com/en/products/detail/yageo/YC124-JR-0710KL/1005019; Height - Seated (Max): 0.022" (0.55mm); LastUpdated: 19/09/2022 13:54:50; Lifecycle Status: Active; Minimum Order: 1; Mounting Type: Surface Mount; Number of Pins: 8; Operating Temperature: -55°C ~ 155°C; Package / Case: 0804, Convex, Long Side Terminals; Packaging: TapeAndReel; PartId: 471; Part Status: Active; Price: 0.01; Resistance (Ohms): 10k; Series: YC124; Size / Dimension: 0.079" L x 0.039" W (2.00mm x 1.00mm); Supplier 1: DigiKey; Supplier Part Number 1: YC124J-10KCT-ND
footprint RESNET 0804-8 CONVEX
pins: 1, 2, 3, 4, 5, 6, 7, 8

## YC124-JR-0722RL
designator R?  (value not drawn)
RES ARRAY 4 RES 22 OHM 0804; Manufacturer: Yageo; Circuit Type: Isolated; Number of Resistors: 4; Power Per Element: 62.5mW; Resistance (Ohms): 22; Temperature Coefficient: ±200ppm/°C; Tolerance: ±5%; Part Number: YC124-JR-0722RL; Applications: Automotive AEC-Q200, DDRAM, SDRAM; ComponentLink1Description: Datasheet; ComponentLink1URL: https://www.yageo.com/upload/media/product/productsearch/datasheet/rchip/PYu-YC_TC_group_51_RoHS_L_9.pdf; ComponentLink2Description: DigiKey Link; ComponentLink2URL: https://www.digikey.com/en/products/detail/yageo/YC124-JR-0722RL/1004952; Height - Seated (Max): 0.022" (0.55mm); LastUpdated: 19/09/2022 13:54:50; Lifecycle Status: Active; Minimum Order: 1; Mounting Type: Surface Mount; Number of Pins: 8; Operating Temperature: -55°C ~ 155°C; Package / Case: 0804, Convex, Long Side Terminals; Packaging: TapeAndReel; PartId: 469; Part Status: Active; Price: 0.01; Series: YC124; Size / Dimension: 0.079" L x 0.039" W (2.00mm x 1.00mm); Supplier 1: DigiKey; Supplier Part Number 1: YC124J-22CT-ND
footprint RESNET 0804-8 CONVEX
pins: 1, 2, 3, 4, 5, 6, 7, 8